# EAGLE library part 74HC164D (library NA-2025)
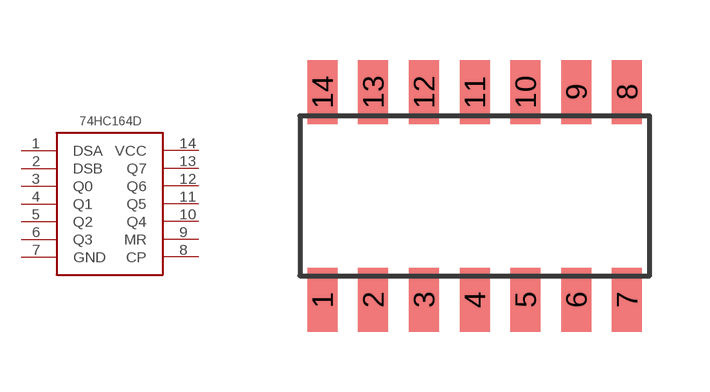
[diagram p8: symbol with the pads of SO14; footprint SO14]

Designator prefix -

## 74HC164D  [SO14]
1  DSA
2  DSB
3  Q0
4  Q1
5  Q2
6  Q3
7  GND
8  CP
9  MR
10  Q4
11  Q5
12  Q6
13  Q7
14  VCC

## Footprint SO14 (pad centres in mm)
smd 0.75 x 1.6: 1 -3.81,-2.6; 2 -2.54,-2.6; 3 -1.27,-2.6; 4 0,-2.6; 5 1.27,-2.6; 6 2.54,-2.6; 7 3.81,-2.6; 8 3.81,2.6; 9 2.54,2.6; 10 1.27,2.6; 11 0,2.6; 12 -1.27,2.6; 13 -2.54,2.6; 14 -3.81,2.6